# Altium schematic symbol library PA_Test_Kartı_v2.SchLib: 42 symbols
Pins are listed as number, name and electrical type; pins without a type are passive.

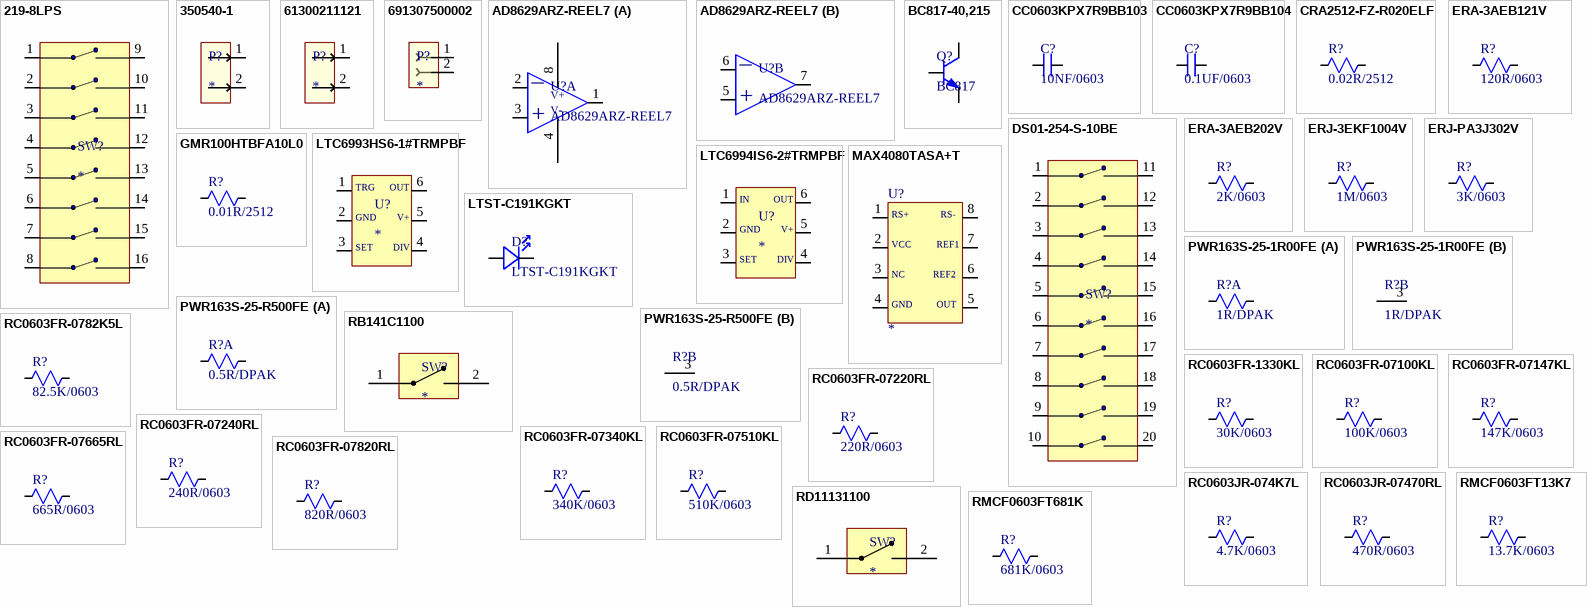
[diagram p0: symbols 219-8LPS to RMCF0603FT681K]

## 219-8LPS
designator SW?
SWITCH 100mA, 20 VDC, DIP 8 SPST IC
footprint 219-8LPS
pins: 1, 2, 3, 4, 5, 6, 7, 8, 9 11, 10 12, 11 13, 12 14, 13 15, 14 16, 15 17, 16 18

## 350540-1
designator P?
CONN HEADER VERT 2POS 5.08MM 12A
footprint 350540-1
pins: 1, 2

## 61300211121
designator P?
CONN HEADER VERT 2POS 2.54MM 3A
footprint 61300211121
pins: 1, 2

## 691307500002
designator P?
TERM BLOCK HDR 2POS 5.08mm
footprint 691307500002
pins: 1, 2

## AD8629ARZ-REEL7
designator U?
IC OPAMP ZERO-DRIFT 2 CIRC 8SOIC
footprint AD8629ARZ_REEL7
part A pins: 1 Output, 2 Input-, 3 Input+, 4 V-, 8 V+
part B pins: 5 Input+, 6 Input-, 7 Output
part A text: _; +
part B text: _; +

## BC817-40,215
designator Q?, comment BC817
TRANS NPN 45V 0.5A TO236AB
footprint BC817-40,215
pins: 1 Base, 2 Emitter, 3 Collector

## CC0603KPX7R9BB103
designator C?, comment 10NF/0603
CAP CER 10000PF 50V X7R 0603
footprint CAP 0603
pins: 1, 2

## CC0603KPX7R9BB104
designator C?, comment 0.1UF/0603
CAP CER 0.1UF 50V X7R 0603
footprint CAP 0603
pins: 1, 2

## CRA2512-FZ-R020ELF
designator R?, comment 0.02R/2512
RES POWER 0.02 OHM 1% 3W  CURR SENSE 2512
footprint RES2512
pins: 1, 2

## DS01-254-S-10BE
designator SW?
SWITCH 25mA, 24 VDC, DIP 10 SPST IC
footprint DS01-254-S-10BE
pins: 1, 2, 3, 4, 5, 6, 7, 8, 9, 10, 11, 12, 13, 14, 15, 16, 17, 18, 19, 20

## ERA-3AEB121V
designator R?, comment 120R/0603
RES SMD 120 OHM 0.1% 1/10W 0603
footprint RES0603
pins: 1, 2

## ERA-3AEB202V
designator R?, comment 2K/0603
RES SMD 2K OHM 0.1% 1/10W 0603
footprint RES0603
pins: 1, 2

## ERJ-3EKF1004V
designator R?, comment 1M/0603
RES SMD 1M OHM 1% 1/10W 0603
footprint RES0603
pins: 1, 2

## ERJ-PA3J302V
designator R?, comment 3K/0603
RES SMD 3K OHM 5% 1/3W 0603
footprint RES0603
pins: 1, 2

## GMR100HTBFA10L0
designator R?, comment 0.01R/2512
RES SMD  0.01 OHM CURR SENSE 7W 1% 2512
footprint GMR100HTBFA10L0
pins: 1, 2

## LTC6993HS6-1#TRMPBF
designator U?
footprint LTC6993HS6-1#TRMPBF
pins: 1, 2, 3, 4, 5, 6
text: TRG; OUT; GND; V+; SET; DIV

## LTC6994IS6-2#TRMPBF
designator U?
footprint LTC6994IS6-2#TRMPBF_1
pins: 1, 2, 3, 4, 5, 6
text: IN; OUT; GND; V+; SET; DIV

## LTST-C191KGKT
designator D?
LED GREEN CLEAR SMD
footprint LTST-C191KGKT (LED GREEN CLEAR SMD)
pins: 1, 2

## MAX4080TASA+T
designator U?
footprint MAX4080TASA+T
pins: 1, 2, 3, 4, 5, 6, 7, 8
text: RS+; RS-; VCC; REF1; NC; REF2; GND; OUT

## PWR163S-25-1R00FE
designator R?, comment 1R/DPAK
RES POWER  1 OHM  25W 1% Non-Standart DPAK
footprint PWR163S-25-1R00FE
part A pins: 1, 2
part B pins: 3 Isolated

## PWR163S-25-R500FE
designator R?, comment 0.5R/DPAK
RES POWER 0.5 OHM  25W 1% Non-Standart DPAK
footprint PWR163S-25-R500FE
part A pins: 1, 2
part B pins: 3 Isolated

## RB141C1100
designator SW?
SWITCH ROCKER SPST 15A 125V
footprint RB141C1100
pins: 1, 2

## RC0603FR-0782K5L
designator R?, comment 82.5K/0603
RES SMD 82.5K OHM 1% 1/16W 0603
footprint RES0603
pins: 1, 2

## RC0603FR-1330KL
designator R?, comment 30K/0603
RES SMD 30K OHM 1% 1/10W 0603
footprint RES0603
pins: 1, 2

## RC0603FR-07100KL
designator R?, comment 100K/0603
RES SMD 100 KOHM 1% 1/16W 0603
footprint RES0603
pins: 1, 2

## RC0603FR-07147KL
designator R?, comment 147K/0603
RES SMD 147K OHM 1% 1/16W 0603
footprint RES0603
pins: 1, 2

## RC0603FR-07220RL
designator R?, comment 220R/0603
RES SMD 220 OHM 1% 1/10W 0603
footprint RES0603
pins: 1, 2

## RC0603FR-07240RL
designator R?, comment 240R/0603
RES SMD 240 OHM 1% 1/10W 0603
footprint RES0603
pins: 1, 2

## RC0603FR-07340KL
designator R?, comment 340K/0603
RES SMD 340K OHM 1% 1/10W 0603
footprint RES0603
pins: 1, 2

## RC0603FR-07510KL
designator R?, comment 510K/0603
RES SMD 510K OHM 1% 1/10W 0603
footprint RES0603
pins: 1, 2

## RC0603FR-07665RL
designator R?, comment 665R/0603
RES SMD 665 OHM 1% 1/10W 0603
footprint RES0603
pins: 1, 2

## RC0603FR-07820RL
designator R?, comment 820R/0603
RES SMD 820 OHM 1% 1/10W 0603
footprint RES0603
pins: 1, 2

## RC0603JR-074K7L
designator R?, comment 4.7K/0603
RES SMD 4.7K OHM 5% 1/16W 0603
footprint RES0603
pins: 1, 2

## RC0603JR-07470RL
designator R?, comment 470R/0603
RES SMD 470 OHM 5% 1/10W 0603
footprint RES0603
pins: 1, 2

## RD11131100
designator SW?
POWER SWITCH 16A, 125 VAC, ROCKER SPST
footprint RD11131100
pins: 1, 2

## RMCF0603FT13K7
designator R?, comment 13.7K/0603
RES  13.7K OHM 1% 1/10W 0603
footprint RES0603
pins: 1, 2

## RMCF0603FT681K
designator R?, comment 681K/0603
RES  681K OHM 1% 1/10W 0603
footprint RES0603
pins: 1, 2

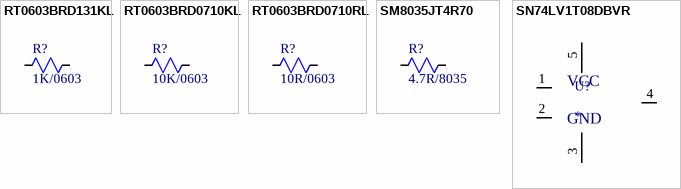
[diagram p1: symbols RT0603BRD131KL to SN74LV1T08DBVR]

## RT0603BRD131KL
designator R?, comment 1K/0603
RES SMD 1K OHM 0.1% 1/10W 0603
footprint RES0603
pins: 1, 2

## RT0603BRD0710KL
designator R?, comment 10K/0603
RES SMD 10K OHM 0.1% 1/10W 0603
footprint RES0603
pins: 1, 2

## RT0603BRD0710RL
designator R?, comment 10R/0603
RES SMD 10 OHM 0.1% 1/10W 0603
footprint RES0603
pins: 1, 2

## SM8035JT4R70
designator R?, comment 4.7R/8035
RES POWER 4.7 OHM  4W 5% 8035 J-Lead
footprint SM8035JT4R70
pins: 1, 2

## SN74LV1T08DBVR
designator U?
1CH 2INP AND-Gate 5V
footprint SN74LV1T08DBVR
pins: 1 Input_1, 2 Input_2, 3 GND, 4 Output, 5 VCC